# EAGLE library part 74HC154 (library XYKlib)
4-line to 16-line data SELECTOR/MULTIPLEXER
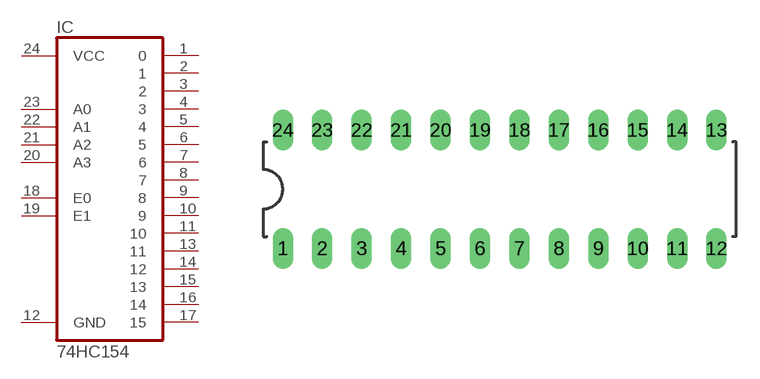
[diagram p4: symbol with the pads of DIL24-3; footprint DIL24-3]

Designator prefix IC

## 74HC154  [DIL24-3]
1  0
2  1
3  2
4  3
5  4
6  5
7  6
8  7
9  8
10  9
11  10
12  GND
13  11
14  12
15  13
16  14
17  15
18  E0
19  E1
20  A3  in
21  A2  in
22  A1  in
23  A0  in
24  VCC

## Footprint DIL24-3 (pad centres in mm)
drill 0.813 long: 1 -16.51,-3.81; 2 -13.97,-3.81; 3 -11.43,-3.81; 4 -8.89,-3.81; 5 -6.35,-3.81; 6 -3.81,-3.81; 7 -1.27,-3.81; 8 1.27,-3.81; 9 3.81,-3.81; 10 6.35,-3.81; 11 8.89,-3.81; 12 11.43,-3.81; 13 11.43,3.81; 14 8.89,3.81; 15 6.35,3.81; 16 3.81,3.81; 17 1.27,3.81; 18 -1.27,3.81; 19 -3.81,3.81; 20 -6.35,3.81; 21 -8.89,3.81; 22 -11.43,3.81; 23 -13.97,3.81; 24 -16.51,3.81